# EAGLE library part L30 (library X893)
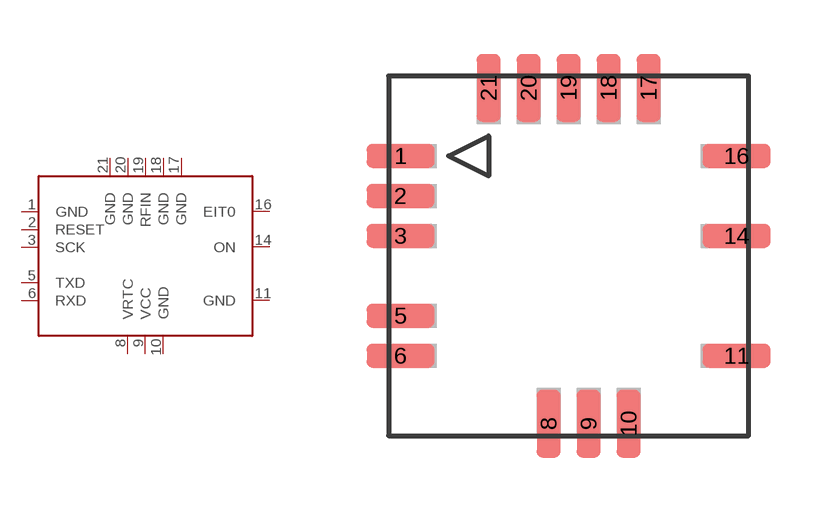
[diagram p178: symbol with the pads of L30; footprint L30]

Designator prefix U

## L30  [L30]
1  GND  pwr
2  RESET  in
3  SCK
5  TXD
6  RXD
8  VRTC  pas
9  VCC  pas
10  GND  pwr
11  GND  pwr
14  ON  in
16  EIT0  in
17  GND  pwr
18  GND  pwr
19  RFIN  pas
20  GND  pwr
21  GND  pwr

## Footprint L30 (pad centres in mm)
http://grandelectronic.com/wireless/gps/module-l30.html
smd 1.7 x 0.6: 1 -4.2,2.5; 2 -4.2,1.5; 3 -4.2,0.5; 5 -4.2,-1.5; 6 -4.2,-2.5; 11 4.2,-2.5; 14 4.2,0.5; 16 4.2,2.5
smd 0.6 x 1.7: 8 -0.5,-4.2; 9 0.5,-4.2; 10 1.5,-4.2; 17 2,4.2; 18 1,4.2; 19 0,4.2; 20 -1,4.2; 21 -2,4.2